# Altium schematic symbol library tor1kkLib.SchLib: 61 symbols
Pins are listed as number, name and electrical type; pins without a type are passive.

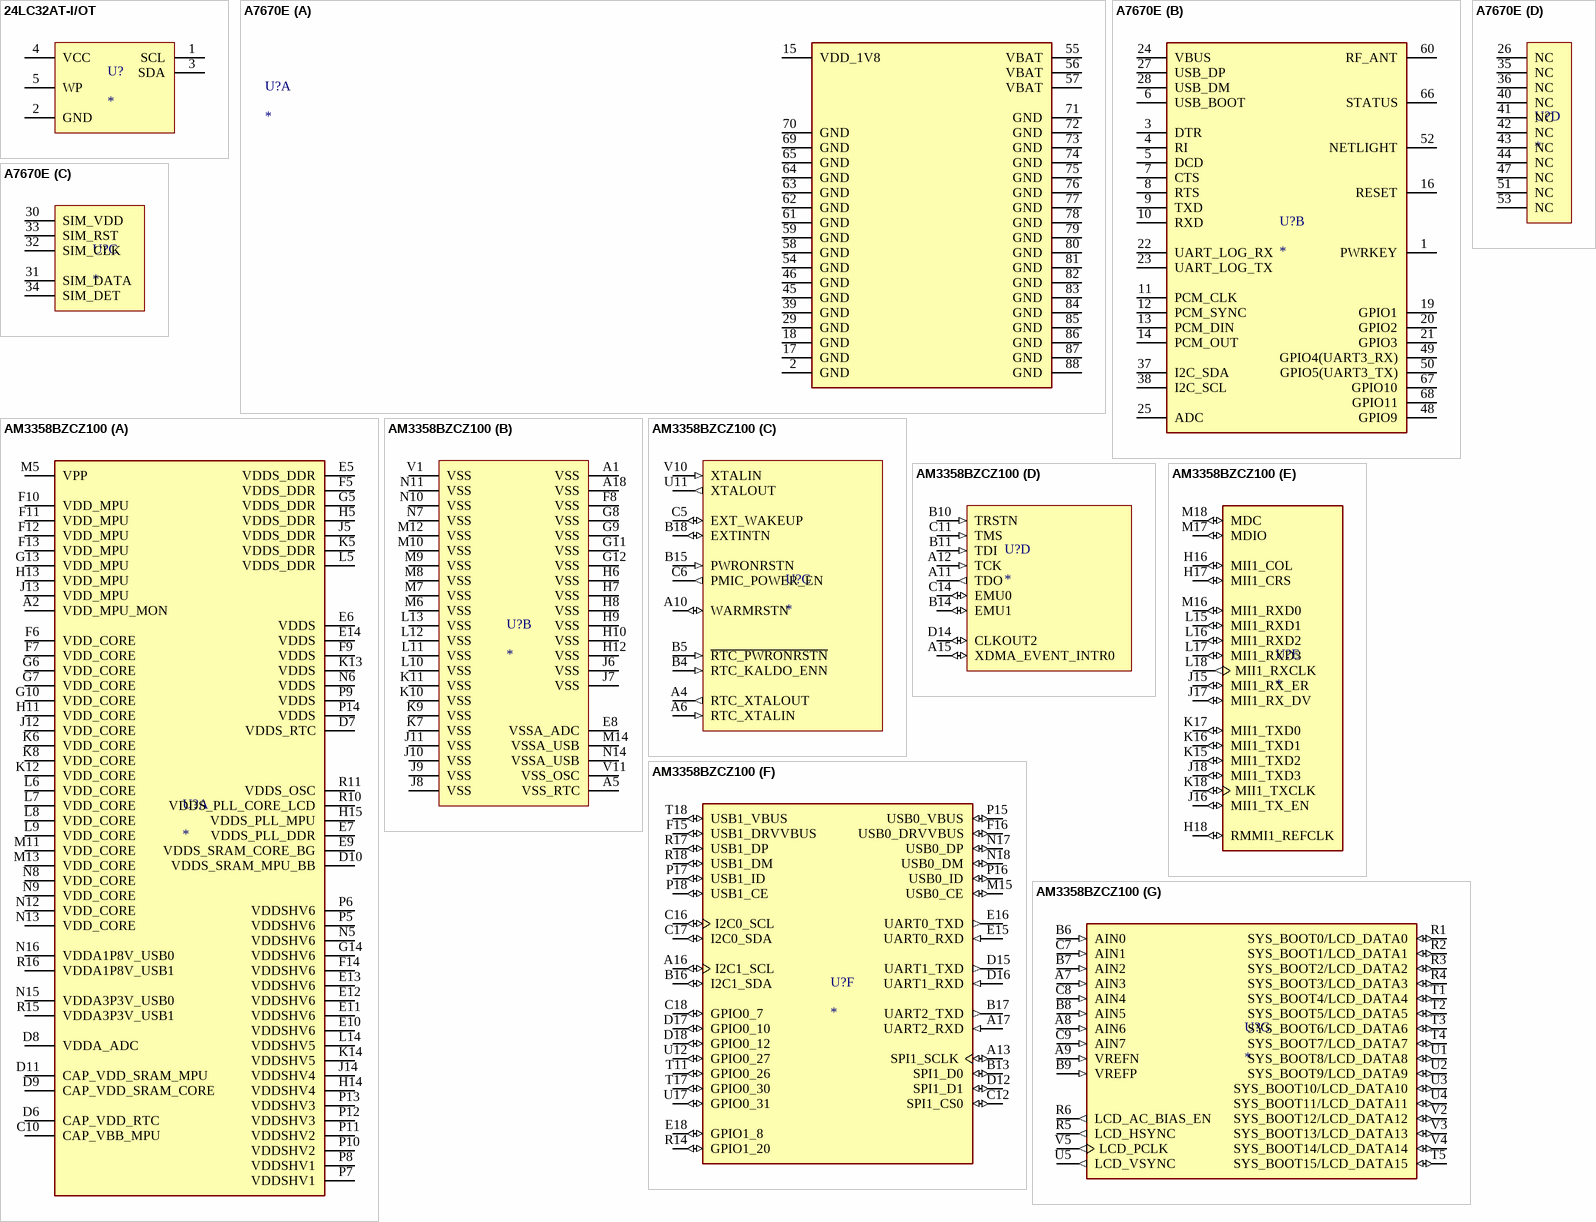
[diagram p0: symbols 24LC32AT-I/OT to AM3358BZCZ100]

## 24LC32AT-I/OT
designator U?
32Kbit 400kHz I2C SOT-23-5 EEPROM ROHS; Manufacturer: Microchip Tech; Manufacturer Part Number: 24LC32AT-I/OT; ComponentLink1Description: Datasheet Link; ComponentLink1URL: https://ww1.microchip.com/downloads/aemDocuments/documents/MPD/ProductDocuments/DataSheets/24AA32A-24LC32A-32-Kbit-I2C-Serial-EEPROM-DS20001713.pdf
footprint SOT-23-5 (SOT23, 5-Leads, Body 2,90x2,80mm, Pitch 0,95mm, IPC Medium Density)
pins: 1 SCL, 2 GND, 3 SDA, 4 VCC, 5 WP

## A7670E
designator U?
LTE Cat 1 module; Manufacturer: SIMCom Wireless Solutions; Manufacturer Part Number: A7670E-LASE; ComponentLink1Description: Datasheet Link; ComponentLink1URL: https://nostris.ee/pdf/A7670%20Series%20Hardware%20Design_V1.00.pdf
footprint A7670
part A pins: 2 GND, 15 VDD_1V8, 17 GND, 18 GND, 29 GND, 39 GND, 45 GND, 46 GND, 54 GND, 55 VBAT, 56 VBAT, 57 VBAT, 58 GND, 59 GND, 61 GND, 62 GND, 63 GND, 64 GND, 65 GND, 69 GND, 70 GND, 71 GND, 72 GND, 73 GND, 74 GND, 75 GND, 76 GND, 77 GND, 78 GND, 79 GND, 80 GND, 81 GND, 82 GND, 83 GND, 84 GND, 85 GND, 86 GND, 87 GND, 88 GND
part B pins: 1 PWRKEY, 3 DTR, 4 RI, 5 DCD, 6 USB_BOOT, 7 CTS, 8 RTS, 9 TXD, 10 RXD, 11 PCM_CLK, 12 PCM_SYNC, 13 PCM_DIN, 14 PCM_OUT, 16 RESET, 19 GPIO1, 20 GPIO2, 21 GPIO3, 22 UART_LOG_RX, 23 UART_LOG_TX, 24 VBUS, 25 ADC, 27 USB_DP, 28 USB_DM, 37 I2C_SDA, 38 I2C_SCL, 48 GPIO9, 49 GPIO4(UART3_RX), 50 GPIO5(UART3_TX), 52 NETLIGHT, 60 RF_ANT, 66 STATUS, 67 GPIO10, 68 GPIO11
part C pins: 30 SIM_VDD, 31 SIM_DATA, 32 SIM_CLK, 33 SIM_RST, 34 SIM_DET
part D pins: 26 NC, 35 NC, 36 NC, 40 NC, 41 NC, 42 NC, 43 NC, 44 NC, 47 NC, 51 NC, 53 NC

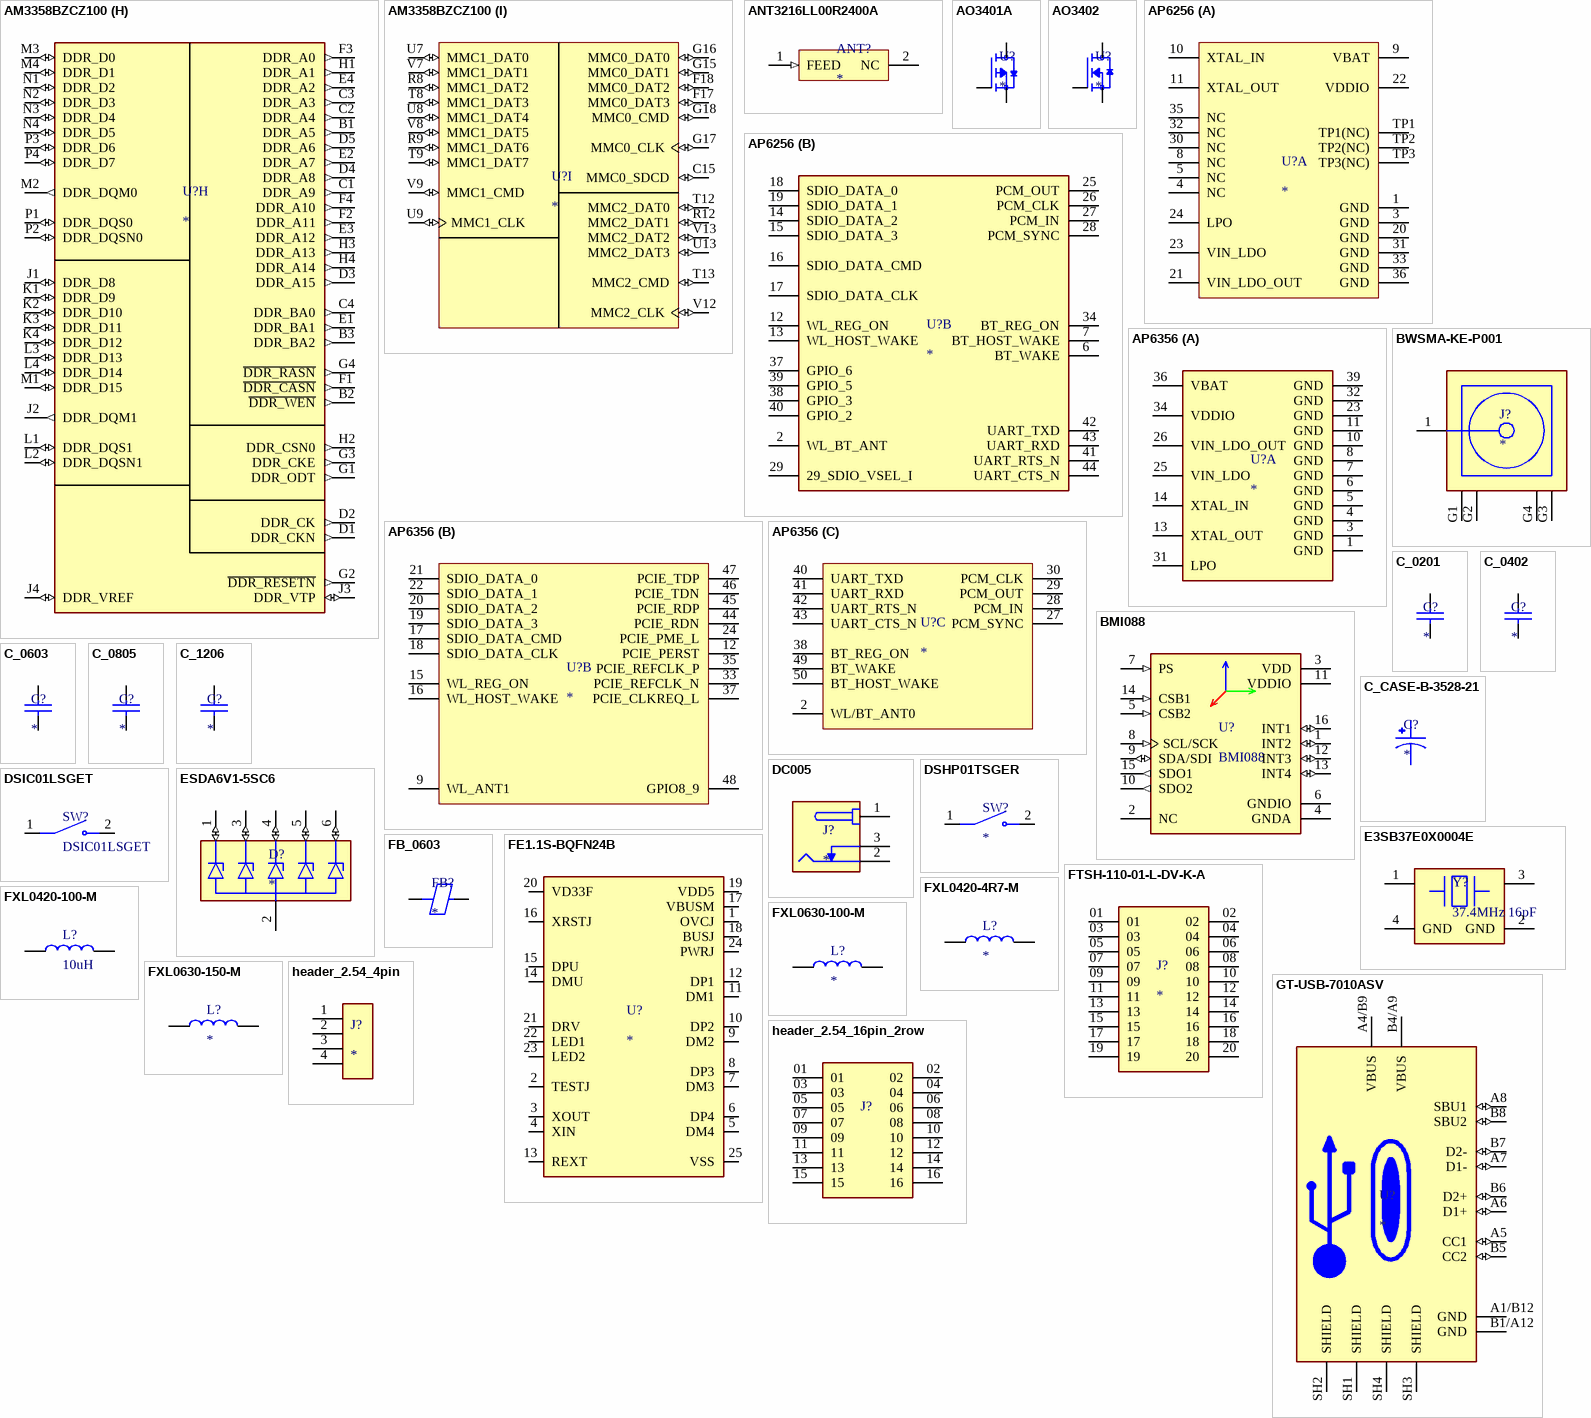
[diagram p1: symbols AM3358BZCZ100 to header_2.54_16pin_2row]

## AM3358BZCZ100
designator U?
ARM-ASeries 1GHz NFBGA-324 Microcontrollers (MCU/MPU/SOC) ROHS; Manufacturer: Texas Instruments; Manufacturer Part Number: AM3358BZCZ100; Datasheet Link: https://www.ti.com/lit/ds/symlink/am3358.pdf
footprint BGA324C80P18X18_1500X1500X140
part A pins: A2 VDD_MPU_MON (power), C10 CAP_VBB_MPU (power), D6 CAP_VDD_RTC (power), D7 VDDS_RTC (power), D8 VDDA_ADC (power), D9 CAP_VDD_SRAM_CORE (power), D10 VDDS_SRAM_MPU_BB (power), D11 CAP_VDD_SRAM_MPU (power), E5 VDDS_DDR (power), E6 VDDS (power), E7 VDDS_PLL_DDR (power), E9 VDDS_SRAM_CORE_BG (power), E10 VDDSHV6 (power), E11 VDDSHV6 (power), E12 VDDSHV6 (power), E13 VDDSHV6 (power), E14 VDDS (power), F5 VDDS_DDR (power), F6 VDD_CORE (power), F7 VDD_CORE (power), F9 VDDS (power), F10 VDD_MPU (power), F11 VDD_MPU (power), F12 VDD_MPU (power), F13 VDD_MPU (power), F14 VDDSHV6 (power), G5 VDDS_DDR (power), G6 VDD_CORE (power), G7 VDD_CORE (power), G10 VDD_CORE (power), G13 VDD_MPU (power), G14 VDDSHV6 (power), H5 VDDS_DDR (power), H11 VDD_CORE (power), H13 VDD_MPU (power), H14 VDDSHV4 (power), H15 VDDS_PLL_MPU (power), J5 VDDS_DDR (power), J12 VDD_CORE (power), J13 VDD_MPU (power), J14 VDDSHV4 (power), K5 VDDS_DDR (power), K6 VDD_CORE (power), K8 VDD_CORE (power), K12 VDD_CORE (power), K13 VDDS (power), K14 VDDSHV5 (power), L5 VDDS_DDR (power), L6 VDD_CORE (power), L7 VDD_CORE (power), L8 VDD_CORE (power), L9 VDD_CORE (power), L14 VDDSHV5 (power), M5 VPP (power), M11 VDD_CORE (power), M13 VDD_CORE (power), N5 VDDSHV6 (power), N6 VDDS (power), N8 VDD_CORE (power), N9 VDD_CORE (power), N12 VDD_CORE (power), N13 VDD_CORE (power), N15 VDDA3P3V_USB0 (power), N16 VDDA1P8V_USB0 (power), P5 VDDSHV6 (power), P6 VDDSHV6 (power), P7 VDDSHV1 (power), P8 VDDSHV1 (power), P9 VDDS (power), P10 VDDSHV2 (power), P11 VDDSHV2 (power), P12 VDDSHV3 (power), P13 VDDSHV3 (power), P14 VDDS (power), R10 VDDS_PLL_CORE_LCD (power), R11 VDDS_OSC (power), R15 VDDA3P3V_USB1 (power), R16 VDDA1P8V_USB1 (power)
part B pins: A1 VSS (power), A5 VSS_RTC (power), A18 VSS (power), E8 VSSA_ADC (power), F8 VSS (power), G8 VSS (power), G9 VSS (power), G11 VSS (power), G12 VSS (power), H6 VSS (power), H7 VSS (power), H8 VSS (power), H9 VSS (power), H10 VSS (power), H12 VSS (power), J6 VSS (power), J7 VSS (power), J8 VSS (power), J9 VSS (power), J10 VSS (power), J11 VSS (power), K7 VSS (power), K9 VSS (power), K10 VSS (power), K11 VSS (power), L10 VSS (power), L11 VSS (power), L12 VSS (power), L13 VSS (power), M6 VSS (power), M7 VSS (power), M8 VSS (power), M9 VSS (power), M10 VSS (power), M12 VSS (power), M14 VSSA_USB (power), N7 VSS (power), N10 VSS (power), N11 VSS (power), N14 VSSA_USB (power), V1 VSS (power), V11 VSS_OSC (power)
part C pins: A4 RTC_XTALOUT (out), A6 RTC_XTALIN (in), A10 WARMRSTN (io), B4 RTC_KALDO_ENN (in), B5 ~{RTC_PWRONRSTN} (in), B15 PWRONRSTN (in), B18 EXTINTN (io), C5 EXT_WAKEUP (io), C6 PMIC_POWER_EN (out), U11 XTALOUT (out), V10 XTALIN (in)
part D pins: A11 TDO (out), A12 TCK (in), A15 XDMA_EVENT_INTR0 (io), B10 TRSTN (in), B11 TDI (in), B14 EMU1 (io), C11 TMS (in), C14 EMU0 (io), D14 CLKOUT2 (io)
part E pins: H16 MII1_COL (io), H17 MII1_CRS (io), H18 RMMI1_REFCLK (io), J15 MII1_RX_ER (io), J16 MII1_TX_EN (io), J17 MII1_RX_DV (io), J18 MII1_TXD3 (io), K15 MII1_TXD2 (io), K16 MII1_TXD1 (io), K17 MII1_TXD0 (io), K18 MII1_TXCLK (io), L15 MII1_RXD1 (io), L16 MII1_RXD2 (io), L17 MII1_RXD3 (io), L18 MII1_RXCLK (out), M16 MII1_RXD0 (io), M17 MDIO (io), M18 MDC (io)
part F pins: A13 SPI1_SCLK (io), A16 I2C1_SCL (io), A17 UART2_RXD (in), B13 SPI1_D0 (io), B16 I2C1_SDA (io), B17 UART2_TXD (out), C12 SPI1_CS0 (io), C16 I2C0_SCL (io), C17 I2C0_SDA (io), C18 GPIO0_7 (io), D12 SPI1_D1 (io), D15 UART1_TXD (out), D16 UART1_RXD (in), D17 GPIO0_10 (io), D18 GPIO0_12 (io), E15 UART0_RXD (in), E16 UART0_TXD (out), E18 GPIO1_8 (io), F15 USB1_DRVVBUS (io), F16 USB0_DRVVBUS (io), M15 USB0_CE (io), N17 USB0_DP (io), N18 USB0_DM (io), P15 USB0_VBUS (io), P16 USB0_ID (io), P17 USB1_ID (io), P18 USB1_CE (io), R14 GPIO1_20 (io), R17 USB1_DP (io), R18 USB1_DM (io), T11 GPIO0_26 (io), T17 GPIO0_30 (io), T18 USB1_VBUS (io), U12 GPIO0_27 (io), U17 GPIO0_31 (io)
part G pins: A7 AIN3 (in), A8 AIN6 (in), A9 VREFN (in), B6 AIN0 (in), B7 AIN2 (in), B8 AIN5 (in), B9 VREFP (in), C7 AIN1 (in), C8 AIN4 (in), C9 AIN7 (in), R1 SYS_BOOT0/LCD_DATA0 (io), R2 SYS_BOOT1/LCD_DATA1 (io), R3 SYS_BOOT2/LCD_DATA2 (io), R4 SYS_BOOT3/LCD_DATA3 (io), R5 LCD_HSYNC (out), R6 LCD_AC_BIAS_EN (out), T1 SYS_BOOT4/LCD_DATA4 (io), T2 SYS_BOOT5/LCD_DATA5 (io), T3 SYS_BOOT6/LCD_DATA6 (io), T4 SYS_BOOT7/LCD_DATA7 (io), T5 SYS_BOOT15/LCD_DATA15 (io), U1 SYS_BOOT8/LCD_DATA8 (io), U2 SYS_BOOT9/LCD_DATA9 (io), U3 SYS_BOOT10/LCD_DATA10 (io), U4 SYS_BOOT11/LCD_DATA11 (io), U5 LCD_VSYNC (out), V2 SYS_BOOT12/LCD_DATA12 (io), V3 SYS_BOOT13/LCD_DATA13 (io), V4 SYS_BOOT14/LCD_DATA14 (io), V5 LCD_PCLK (out)
part H pins: B1 DDR_A5 (out), B2 ~{DDR_WEN} (out), B3 DDR_BA2 (out), C1 DDR_A9 (out), C2 DDR_A4 (out), C3 DDR_A3 (out), C4 DDR_BA0 (out), D1 DDR_CKN (out), D2 DDR_CK (out), D3 DDR_A15 (out), D4 DDR_A8 (out), D5 DDR_A6 (out), E1 DDR_BA1 (out), E2 DDR_A7 (out), E3 DDR_A12 (out), E4 DDR_A2 (out), F1 ~{DDR_CASN} (out), F2 DDR_A11 (out), F3 DDR_A0 (out), F4 DDR_A10 (out), G1 DDR_ODT (out), G2 ~{DDR_RESETN} (out), G3 DDR_CKE (out), G4 ~{DDR_RASN} (out), H1 DDR_A1 (out), H2 DDR_CSN0 (out), H3 DDR_A13 (out), H4 DDR_A14 (out), J1 DDR_D8 (io), J2 DDR_DQM1 (out), J3 DDR_VTP (io), J4 DDR_VREF (io), K1 DDR_D9 (io), K2 DDR_D10 (io), K3 DDR_D11 (io), K4 DDR_D12 (io), L1 DDR_DQS1 (io), L2 DDR_DQSN1 (io), L3 DDR_D13 (io), L4 DDR_D14 (io), M1 DDR_D15 (io), M2 DDR_DQM0 (out), M3 DDR_D0 (io), M4 DDR_D1 (io), N1 DDR_D2 (io), N2 DDR_D3 (io), N3 DDR_D4 (io), N4 DDR_D5 (io), P1 DDR_DQS0 (io), P2 DDR_DQSN0 (io), P3 DDR_D6 (io), P4 DDR_D7 (io)
part I pins: C15 MMC0_SDCD (io), F17 MMC0_DAT3 (io), F18 MMC0_DAT2 (io), G15 MMC0_DAT1 (io), G16 MMC0_DAT0 (io), G17 MMC0_CLK (io), G18 MMC0_CMD (io), R8 MMC1_DAT2 (io), R9 MMC1_DAT6 (io), R12 MMC2_DAT1 (io), T8 MMC1_DAT3 (io), T9 MMC1_DAT7 (io), T12 MMC2_DAT0 (io), T13 MMC2_CMD (io), U7 MMC1_DAT0 (io), U8 MMC1_DAT4 (io), U9 MMC1_CLK (io), U13 MMC2_DAT3 (io), V7 MMC1_DAT1 (io), V8 MMC1_DAT5 (io), V9 MMC1_CMD (io), V12 MMC2_CLK (io), V13 MMC2_DAT2 (io)

## ANT3216LL00R2400A
designator ANT?
5.05dBi Chip Antenna Linear 160MHz 2450MHz 1W 1206 Antennas ROHS; Manufacturer: YAGEO; Manufacturer Part Number: ANT3216LL00R2400A; ComponentLink1Description: Datasheet Link; ComponentLink1URL: https://www.lcsc.com/datasheet/lcsc_datasheet_2410121536_YAGEO-ANT3216LL00R2400A_C293767.pdf
footprint ANT_1206
pins: 1 FEED (in), 2 NC

## AO3401A
designator U?
P-Channel 30 V 4A (Ta) 1.4W (Ta) Surface Mount SOT-23-3; Manufacturer: Alpha & Omega Semicon; Manufacturer Part Number: AO3401A; ComponentLink1Description: Datasheet Link; ComponentLink1URL: https://www.lcsc.com/datasheet/lcsc_datasheet_2412061733_Alpha---Omega-Semicon-AO3401A_C15127.pdf
footprint SOT-23-3
footprint SOT-23-3
pins: 1 G, 2 S, 3 D

## AO3402
designator U?
N-Channel 30 V 4A (Ta) 1.4W (Ta) Surface Mount SOT-23-3; Manufacturer: Alpha & Omega Semicon; Manufacturer Part Number: AO3402; ComponentLink1Description: Datasheet Link; ComponentLink1URL: https://www.lcsc.com/datasheet/lcsc_datasheet_2410121835_Alpha---Omega-Semicon-AO3402_C14385.pdf
footprint SOT-23-3
footprint SOT-23-3
pins: 1 G, 2 S, 3 D

## AP6256
designator U?
Wi-Fi and Bluetooth 802.11a/b/g/n/ac; Manufacturer: AMPAK Tech; Manufacturer Part Number: AP6256; ComponentLink1Description: Datasheet Link; ComponentLink1URL: https://files.pine64.org/doc/datasheet/PinebookPro/AP6256%20datasheet_V1.7_12282018.pdf
footprint AP6256
part A pins: 1 GND, 3 GND, 4 NC, 5 NC, 8 NC, 9 VBAT, 10 XTAL_IN, 11 XTAL_OUT, 20 GND, 21 VIN_LDO_OUT, 22 VDDIO, 23 VIN_LDO, 24 LPO, 30 NC, 31 GND, 32 NC, 33 GND, 35 NC, 36 GND, TP1 TP1(NC), TP2 TP2(NC), TP3 TP3(NC)
part B pins: 2 WL_BT_ANT, 6 BT_WAKE, 7 BT_HOST_WAKE, 12 WL_REG_ON, 13 WL_HOST_WAKE, 14 SDIO_DATA_2, 15 SDIO_DATA_3, 16 SDIO_DATA_CMD, 17 SDIO_DATA_CLK, 18 SDIO_DATA_0, 19 SDIO_DATA_1, 25 PCM_OUT, 26 PCM_CLK, 27 PCM_IN, 28 PCM_SYNC, 29 29_SDIO_VSEL_I, 34 BT_REG_ON, 37 GPIO_6, 38 GPIO_3, 39 GPIO_5, 40 GPIO_2, 41 UART_RTS_N, 42 UART_TXD, 43 UART_RXD, 44 UART_CTS_N

## AP6356
designator U?
Wi-Fi and Bluetooth IEEE 802.11 a/b/g/n/ac 2x2 MIMO
footprint AP6356
part A pins: 1 GND, 3 GND, 4 GND, 5 GND, 6 GND, 7 GND, 8 GND, 10 GND, 11 GND, 13 XTAL_OUT, 14 XTAL_IN, 23 GND, 25 VIN_LDO, 26 VIN_LDO_OUT, 31 LPO, 32 GND, 34 VDDIO, 36 VBAT, 39 GND
part B pins: 9 WL_ANT1, 12 PCIE_PERST, 15 WL_REG_ON, 16 WL_HOST_WAKE, 17 SDIO_DATA_CMD, 18 SDIO_DATA_CLK, 19 SDIO_DATA_3, 20 SDIO_DATA_2, 21 SDIO_DATA_0, 22 SDIO_DATA_1, 24 PCIE_PME_L, 33 PCIE_REFCLK_N, 35 PCIE_REFCLK_P, 37 PCIE_CLKREQ_L, 44 PCIE_RDN, 45 PCIE_RDP, 46 PCIE_TDN, 47 PCIE_TDP, 48 GPIO8_9
part C pins: 2 WL/BT_ANT0, 27 PCM_SYNC, 28 PCM_IN, 29 PCM_OUT, 30 PCM_CLK, 38 BT_REG_ON, 40 UART_TXD, 41 UART_RXD, 42 UART_RTS_N, 43 UART_CTS_N, 49 BT_WAKE, 50 BT_HOST_WAKE

## BMI088
designator U?
High-performance 6-axis inertial sensor (accelerometer + gyroscope); Manufacturer: Bosch Sensortec; Manufacturer Part Number: BMI088; Datasheet: https://www.bosch-sensortec.com/media/boschsensortec/downloads/datasheets/bst-bmi088-ds001.pdf
footprint BMI088
pins: 1 INT2 (io), 2 NC, 3 VDD (power), 4 GNDA (power), 5 CSB2 (in), 6 GNDIO (power), 7 PS (in), 8 SCL/SCK (in), 9 SDA/SDI (io), 10 SDO2 (out), 11 VDDIO (power), 12 INT3 (io), 13 INT4 (io), 14 CSB1 (in), 15 SDO1 (out), 16 INT1 (io)

## BWSMA-KE-P001
designator J?
1 Inner Hole SMA Board-End Staggered pins 50Ω 5.2mm SMD Coaxial Connectors (RF) ROHS; Manufacturer: BAT WIRELESS; Manufacturer Part Number: BWSMA-KE-P001; Datasheet Link: https://www.lcsc.com/datasheet/lcsc_datasheet_2410121647_BAT-WIRELESS-BWSMA-KE-P001_C496550.pdf
footprint BATWIRELESS_BWSMA-KE-P001
pins: 1 SIG, G1 GND (power), G2 GND (power), G3 GND (power), G4 GND (power)

## C_0201
designator C?
Capacitor 0201 SMD
footprint C_0201
pins: 1, 2

## C_0402
designator C?
Capacitor 0402 SMD
footprint C_0402
pins: 1, 2

## C_0603
designator C?
Capacitor 0603 SMD
footprint C_0603
pins: 1, 2

## C_0805
designator C?
Capacitor 0805 SMD
footprint C_0805
pins: 1, 2

## C_1206
designator C?
Capacitor 1206 SMD
footprint C_1206
pins: 1, 2

## C_CASE-B-3528-21
designator C?
Tantalum capacitor CASE-B-3528-21
footprint C_CASE-B
pins: 1, 2

## DC005
designator J?
Bend-in DC Power Receptacle -20℃~+70℃ 2mm 6.3mm 5A 24V Plugin DC Power Connectors ROHS
footprint DC005
pins: 1, 2, 3

## DSHP01TSGER
designator SW?
1 Digit SPST 24V Black 25mA 3000 Times SMD,2.9x5.4mm DIP Switches ROHS; Manufacturer: kangshen; Manufacturer Part Number: DSHP01TSGER; ComponentLink1Description: Datasheet Link; ComponentLink1URL: https://www.lcsc.com/datasheet/lcsc_datasheet_2411220122_kangshen-DSHP01TSGER_C3293141.pdf
footprint DSHP01TSGER
pins: 1 COM, 2 NO

## DSIC01LSGET
designator SW?
1 Digit SPST Black Flat Toggle, Raised Style SMD,2.5x6mm DIP Switches ROHS
footprint DSIC01LSGET
pins: 1 COM, 2 NO

## E3SB37E0X0004E
designator Y?, comment 37.4MHz 16pF
37.4MHz 16pF ±10ppm ±10ppm SMD3225-4P Crystals ROHS; Manufacturer: Hosonic Elec; Manufacturer Part Number: E3SB37E0X0004E; ComponentLink1Description: Datasheet Link; ComponentLink1URL: https://www.lcsc.com/datasheet/lcsc_datasheet_2410121523_Hosonic-Elec-E3SB37E0X0004E_C2687892.pdf
footprint CRYSTAL_SMD3225-4P
pins: 1 CRYSTAL_1, 2 GND, 3 CRYSTAL_2, 4 GND

## ESDA6V1-5SC6
designator D?
11.4V Clamp 7A (8/20µs) Ipp Tvs Diode Surface Mount SOT-23-6; Manufacturer: STMicroelectronics; Manufacturer Part Number: ESDA6V1-5SC6; ComponentLink1Description: Datasheet Link; ComponentLink1URL: https://www.st.com/resource/en/datasheet/esda6v1-5sc6.pdf
footprint SOT-23-6
pins: 1 I/O1 (io), 2 GND (power), 3 I/O2 (io), 4 I/O3 (io), 5 I/O4 (io), 6 I/O5 (io)

## FB_0603
designator FB?
Ferrite Beads 0603 SMD
footprint FB_0603
pins: 1, 2

## FE1.1S-BQFN24B
designator U?
USB 2.0 4-PORT HuB CONTROLlER; Manufacturer: Terminus Tech; Manufacturer Part Number: FE1.1S-BQFN24B; Datasheet Link: https://taoic.oss-cn-hangzhou.aliyuncs.com/7545/product/johnma_1627012225000.pdf
footprint QFN50P400X400X80-25N-D
pins: 1 OVCJ, 2 TESTJ, 3 XOUT, 4 XIN, 5 DM4, 6 DP4, 7 DM3, 8 DP3, 9 DM2, 10 DP2, 11 DM1, 12 DP1, 13 REXT, 14 DMU, 15 DPU, 16 XRSTJ, 17 VBUSM, 18 BUSJ, 19 VDD5 (power), 20 VD33F (power), 21 DRV, 22 LED1, 23 LED2, 24 PWRJ, 25 VSS (power)

## FTSH-110-01-L-DV-K-A
designator J?
Connector Header Surface Mount 20 position 0.050" (1.27mm)
footprint FTSH-110-01-L-DV-K-A
pins: 01, 02, 03, 04, 05, 06, 07, 08, 09, 10, 11, 12, 13, 14, 15, 16, 17, 18, 19, 20

## FXL0420-4R7-M
designator L?
2.8A 4.7uH Winding Inductor ±20% 3A SMD,4.2x4.4mm Power Inductors ROHS; Manufacturer: cjiang (Changjiang Microelectronics Tech); Mfr. Part: FXL0420-100-M; Datasheet: https://www.lcsc.com/datasheet/lcsc_datasheet_2404260921_cjiang--Changjiang-Microelectronics-Tech-FXL0420-100-M_C177242.pdf
footprint Inductor - SMD,4.2x4.4mm (Precision Wire Wound Inductor, 2-Leads, Body 4,40x4,20mm, IPC Medium Density)
footprint FXL0420 (SMD,4.2x4.4mm Power Inductors ROHS)
pins: 1, 2

## FXL0420-100-M
designator L?, comment 10uH
1.6A 10uH Integrated molded inductor ±20% 2.2A SMD,4.2x4.4mm Power Inductors ROHS; Manufacturer: cjiang (Changjiang Microelectronics Tech); Manufacturer Part Number: FXL0420-100-M; Datasheet: https://www.lcsc.com/datasheet/lcsc_datasheet_2404260921_cjiang--Changjiang-Microelectronics-Tech-FXL0420-100-M_C177242.pdf
footprint Inductor - SMD,4.2x4.4mm (Precision Wire Wound Inductor, 2-Leads, Body 4,40x4,20mm, IPC Medium Density)
pins: 1, 2

## FXL0630-100-M
designator L?
4.5A 10uH Winding Inductor ±20% 5.5A SMD,6.6x7mm Power Inductors ROHS; Manufacturer: cjiang; Manufacturer Part Number: FXL0630-150-M; Datasheet Link: https://www.lcsc.com/datasheet/lcsc_datasheet_2404260921_cjiang--Changjiang-Microelectronics-Tech-FXL0630-150-M_C177243.pdf
footprint FXL0630
pins: 1, 2

## FXL0630-150-M
designator L?
3A 15uH Integrated molded inductor ±20% 4.5A SMD,6.6x7mm Power Inductors ROHS; Manufacturer: cjiang; Manufacturer Part Number: FXL0630-150-M; Datasheet Link: https://www.lcsc.com/datasheet/lcsc_datasheet_2404260921_cjiang--Changjiang-Microelectronics-Tech-FXL0630-150-M_C177243.pdf
footprint FXL0630
pins: 1, 2

## GT-USB-7010ASV
designator U?
USB 2.0 3A 1 Horizontal attachment 16P Female -40℃~+85℃ Type-C SMD USB Connectors ROHS; Manufacturer: G-Switch; Manufacturer Part Number: GT-USB-7010ASV; ComponentLink1Description: Datasheet Link; ComponentLink1URL: https://www.lcsc.com/datasheet/lcsc_datasheet_2411221125_G-Switch-GT-USB-7010ASV_C2988369.pdf
footprint GT-USB-7010ASV (USB 2.0 3A 1 Horizontal attachment 16P Female -40℃~+85℃ Type-C SMD USB Connectors ROHS)
pins: A1/B12 GND (power), A4/B9 VBUS (power), A5 CC1 (io), A6 D1+ (io), A7 D1- (io), A8 SBU1 (io), B1/A12 GND (power), B4/A9 VBUS (power), B5 CC2 (io), B6 D2+ (io), B7 D2- (io), B8 SBU2 (io), SH1 SHIELD, SH2 SHIELD, SH3 SHIELD, SH4 SHIELD

## header_2.54_4pin
designator J?
footprint header_2.54mm_4pin
pins: 1, 2, 3, 4

## header_2.54_16pin_2row
designator J?  (value not drawn)
footprint header_2.54_16pin_2row
pins: 01, 02, 03, 04, 05, 06, 07, 08, 09, 10, 11, 12, 13, 14, 15, 16

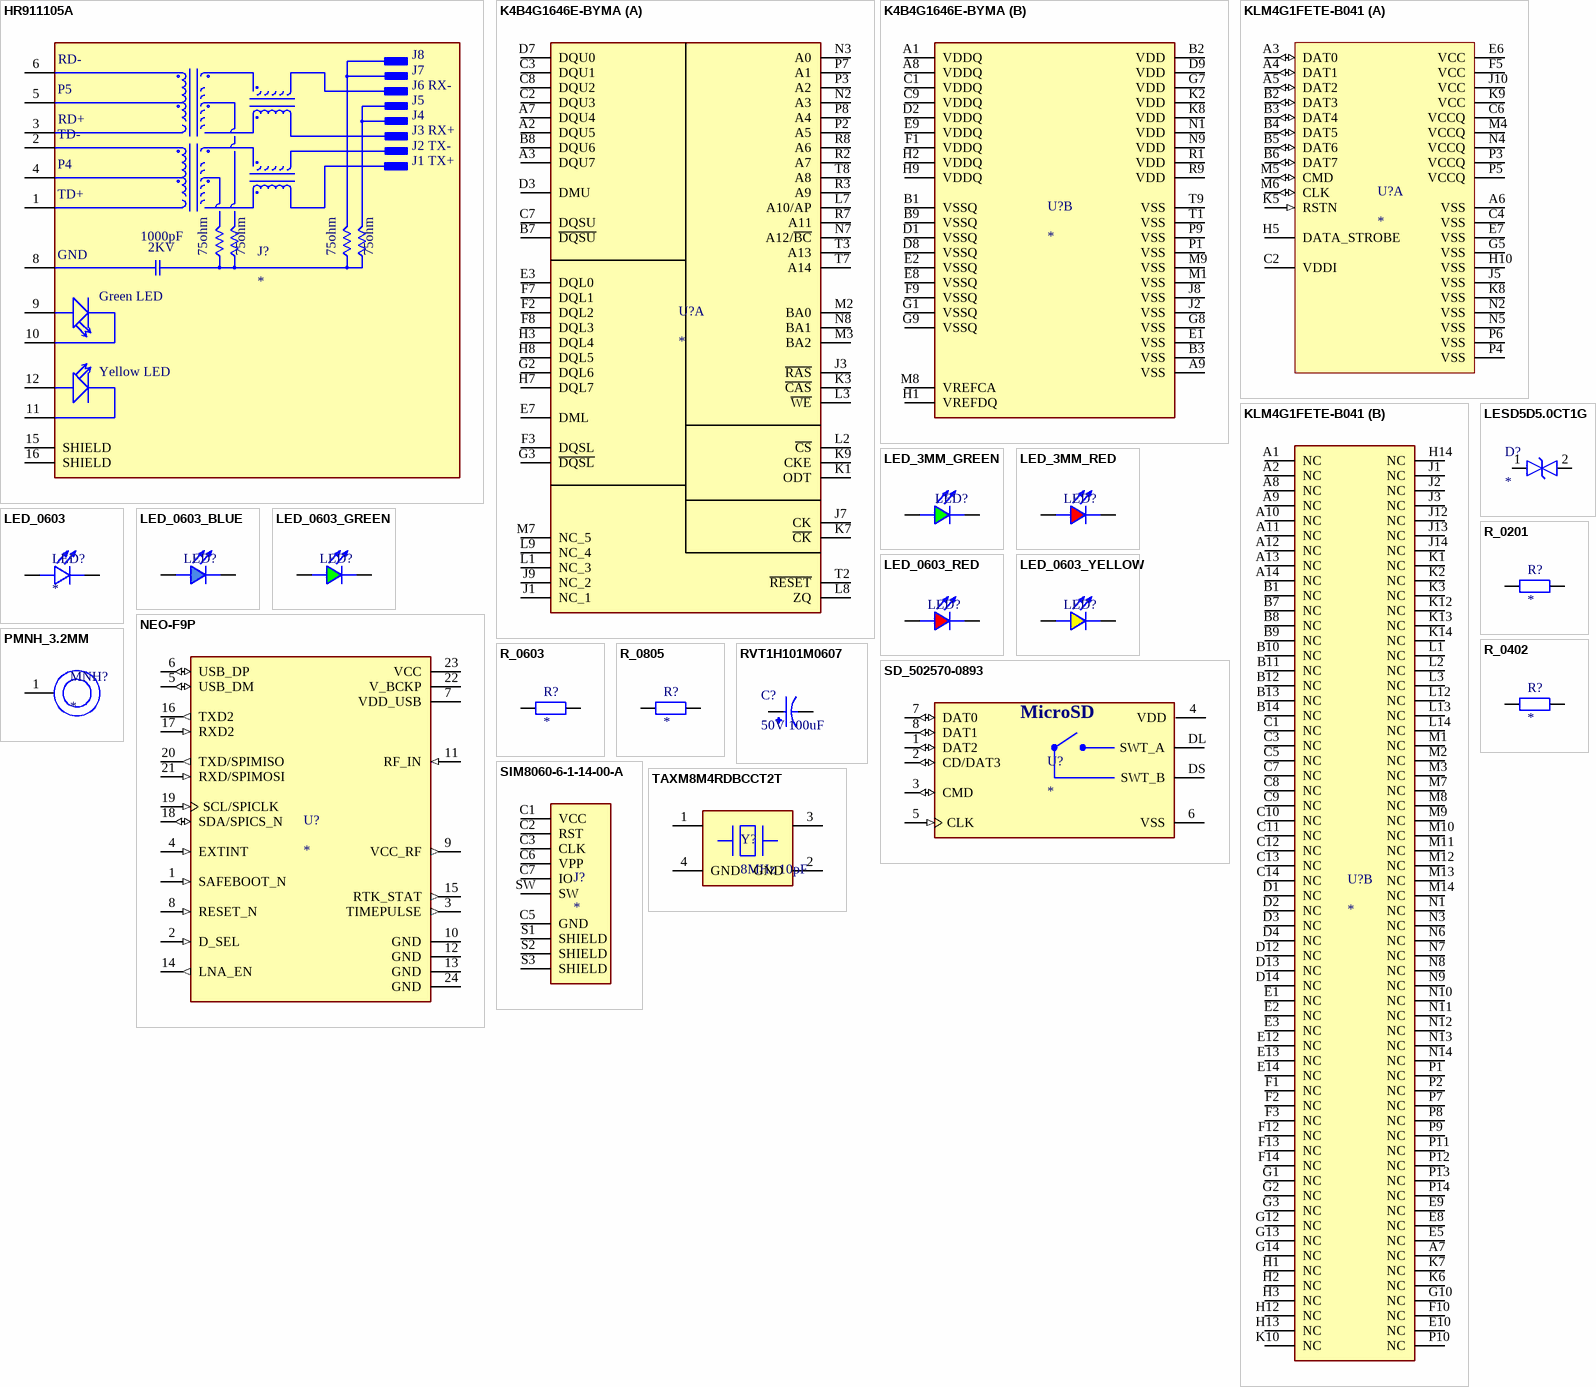
[diagram p2: symbols HR911105A to TAXM8M4RDBCCT2T]

## HR911105A
designator J?
RJ45Receptacle 1 WithLED Plugin Ethernet Connectors / Modular Connectors (RJ45 RJ11) ROHS; Manufaacturer: HANRUN(Zhongshan HanRun Elec); Manufacturer Part Number: HR911105A; ComponentLink1Description: Datasheet Link; ComponentLink1URL: https://www.lcsc.com/datasheet/lcsc_datasheet_2409302333_HANRUN-Zhongshan-HanRun-Elec-HR911105A_C12074.pdf
footprint HR911105A
pins: 1 TD+, 2 TD-, 3 RD+, 4 P4, 5 P5, 6 RD-, 8 GND (power), 9 GA, 10 GC, 11 YC, 12 YA, 15 SHIELD, 16 SHIELD
text: J8; J7; J6 RX-; J5; J4; J3 RX+; J2 TX-; J1 TX+; 1000pF; 2KV; 75ohm; Green LED; Yellow LED

## K4B4G1646E-BYMA
designator U?
4Gbit SDRAM DDR3L 933MHz FBGA-96(7.5x13.3) DDR SDRAM ROHS; Manufacturer Part Number: K4B4G1646E-BYMA; Mnufacturer: Samsung; Datasheet Link: https://download.semiconductor.samsung.com/resources/data-sheet/DS_K4B4G1646E_BY_M_Rev1_11-0.pdf
footprint BGA96C80P9X16_750X1330X120
part A pins: A2 DQU5, A3 DQU7, A7 DQU4, B7 ~{DQSU}, B8 DQU6, C2 DQU3, C3 DQU1, C7 DQSU, C8 DQU2, D3 DMU, D7 DQU0, E3 DQL0, E7 DML, F2 DQL2, F3 DQSL, F7 DQL1, F8 DQL3, G2 DQL6, G3 ~{DQSL}, H3 DQL4, H7 DQL7, H8 DQL5, J1 NC_1, J3 ~{RAS}, J7 CK, J9 NC_2, K1 ODT, K3 ~{CAS}, K7 ~{CK}, K9 CKE, L1 NC_3, L2 ~{CS}, L3 ~{WE}, L7 A10/AP, L8 ZQ, L9 NC_4, M2 BA0, M3 BA2, M7 NC_5, N2 A3, N3 A0, N7 A12/~{BC}, N8 BA1, P2 A5, P3 A2, P7 A1, P8 A4, R2 A7, R3 A9, R7 A11, R8 A6, T2 ~{RESET}, T3 A13, T7 A14, T8 A8
part B pins: A1 VDDQ, A8 VDDQ, A9 VSS, B1 VSSQ, B2 VDD, B3 VSS, B9 VSSQ, C1 VDDQ, C9 VDDQ, D1 VSSQ, D2 VDDQ, D8 VSSQ, D9 VDD, E1 VSS, E2 VSSQ, E8 VSSQ, E9 VDDQ, F1 VDDQ, F9 VSSQ, G1 VSSQ, G7 VDD, G8 VSS, G9 VSSQ, H1 VREFDQ, H2 VDDQ, H9 VDDQ, J2 VSS, J8 VSS, K2 VDD, K8 VDD, M1 VSS, M8 VREFCA, M9 VSS, N1 VDD, N9 VDD, P1 VSS, P9 VSS, R1 VDD, R9 VDD, T1 VSS, T9 VSS

## KLM4G1FETE-B041
designator U?
4GB 300/19 MB/s eMMC 5.1 FBGA-153(10x11) eMMC ROHS; Manufacturer: Samsung; Manufacturer Part Number: KLM4G1FETE-B041; Datasheet Link: https://www.lcsc.com/datasheet/lcsc_datasheet_2410121848_Samsung-KLM4G1FETE-B041_C500273.pdf
footprint BGA153C50P14X14_1100X1000X80
part A pins: A3 DAT0 (io), A4 DAT1 (io), A5 DAT2 (io), A6 VSS, B2 DAT3 (io), B3 DAT4 (io), B4 DAT5 (io), B5 DAT6 (io), B6 DAT7 (io), C2 VDDI, C4 VSS, C6 VCCQ, E6 VCC, E7 VSS, F5 VCC, G5 VSS, H5 DATA_STROBE, H10 VSS, J5 VSS, J10 VCC, K5 RSTN (in), K8 VSS, K9 VCC, M4 VCCQ, M5 CMD (io), M6 CLK (io), N2 VSS, N4 VCCQ, N5 VSS, P3 VCCQ, P4 VSS, P5 VCCQ, P6 VSS
part B pins: A1 NC, A2 NC, A7 NC, A8 NC, A9 NC, A10 NC, A11 NC, A12 NC, A13 NC, A14 NC, B1 NC, B7 NC, B8 NC, B9 NC, B10 NC, B11 NC, B12 NC, B13 NC, B14 NC, C1 NC, C3 NC, C5 NC, C7 NC, C8 NC, C9 NC, C10 NC, C11 NC, C12 NC, C13 NC, C14 NC, D1 NC, D2 NC, D3 NC, D4 NC, D12 NC, D13 NC, D14 NC, E1 NC, E2 NC, E3 NC, E5 NC, E8 NC, E9 NC, E10 NC, E12 NC, E13 NC, E14 NC, F1 NC, F2 NC, F3 NC, F10 NC, F12 NC, F13 NC, F14 NC, G1 NC, G2 NC, G3 NC, G10 NC, G12 NC, G13 NC, G14 NC, H1 NC, H2 NC, H3 NC, H12 NC, H13 NC, H14 NC, J1 NC, J2 NC, J3 NC, J12 NC, J13 NC, J14 NC, K1 NC, K2 NC, K3 NC, K6 NC, K7 NC, K10 NC, K12 NC, K13 NC, K14 NC, L1 NC, L2 NC, L3 NC, L12 NC, L13 NC, L14 NC, M1 NC, M2 NC, M3 NC, M7 NC, M8 NC, M9 NC, M10 NC, M11 NC, M12 NC, M13 NC, M14 NC, N1 NC, N3 NC, N6 NC, N7 NC, N8 NC, N9 NC, N10 NC, N11 NC, N12 NC, N13 NC, N14 NC, P1 NC, P2 NC, P7 NC, P8 NC, P9 NC, P10 NC, P11 NC, P12 NC, P13 NC, P14 NC

## LED_3MM_GREEN
designator LED?  (value not drawn)
Diode LED 3mm Green
footprint LED_3MM_GREEN
pins: 1 A, 2 C

## LED_3MM_RED
designator LED?  (value not drawn)
Diode LED 3mm RED
footprint LED_3MM_RED
pins: 1 A, 2 C

## LED_0603
designator LED?
footprint LED_0603
pins: 1 A, 2 C

## LED_0603_BLUE
designator LED?  (value not drawn)
footprint LED_0603
pins: 1 A, 2 C

## LED_0603_GREEN
designator LED?  (value not drawn)
footprint LED_0603
pins: 1 A, 2 C

## LED_0603_RED
designator LED?  (value not drawn)
footprint LED_0603
pins: 1 A, 2 C

## LED_0603_YELLOW
designator LED?
footprint LED_0603
pins: 1 A, 2 C

## LESD5D5.0CT1G
designator D?
TVS Diode (Bi-directional); Manufacturer: LRC; Manufacturer Part Number: LESD5D5.0CT1G; Height: 0.7mm
footprint LESD5D50CT1G
pins: 1, 2

## NEO-F9P
designator U?
RF Receiver BeiDou, Galileo, GLONASS, GNSS, GPS -167dBm 921.6kbps; Manufacturer: u-blox; Manufacturer Part Number: NEO-F9P-15B; Datasheet Link: https://content.u-blox.com/sites/default/files/documents/NEO-F9P-15B_DataSheet_UBX-22021920.pdf
footprint NEO-F9P
pins: 1 SAFEBOOT_N (in), 2 D_SEL (in), 3 TIMEPULSE (out), 4 EXTINT (in), 5 USB_DM (io), 6 USB_DP (io), 7 VDD_USB (power), 8 RESET_N (in), 9 VCC_RF (out), 10 GND (power), 11 RF_IN (in), 12 GND (power), 13 GND (power), 14 LNA_EN (out), 15 RTK_STAT (out), 16 TXD2 (out), 17 RXD2 (in), 18 SDA/SPICS_N (io), 19 SCL/SPICLK (in), 20 TXD/SPIMISO (out), 21 RXD/SPIMOSI (in), 22 V_BCKP (power), 23 VCC (power), 24 GND (power)

## PMNH_3.2MM
designator MNH?
footprint PMNH_3.2MM
pins: 1

## R_0201
designator R?
Resistor 0201 SMD
footprint R_0201
pins: 1, 2

## R_0402
designator R?
Resistor 0402 SMD
footprint R_0402 (Chip Resistor, 2-Leads, Body 1,00x0,50mm, IPC Medium Density)
pins: 1, 2

## R_0603
designator R?
Resistor 0603 SMD
footprint R_0603
pins: 1, 2

## R_0805
designator R?
Resistor 0805 SMD
footprint R_0603
pins: 1, 2

## RVT1H101M0607
designator C?, comment 50V 100uF
100uF 50V 229mA@120Hz ±20% SMD,D6.3xL7.7mm Aluminum Electrolytic Capacitors - SMD ROHS; Manufacturer Part Number: RVT1H101M0607; Manudacturer: ROQANG; Datasheet Link: https://www.lcsc.com/datasheet/lcsc_datasheet_2410121458_ROQANG-RVT1H101M0607_C3151829.pdf
footprint CAP_D6.3xL7.7mm
pins: 1, 2

## SD_502570-0893
designator U?
Conn IC Socket SD Memory Cd Micro 1.10mm 8Cir Norm Mnt SMT Push-Push LF | Molex Incorporated 502570-0893; Manufacturer: Molex; Manufacturer Part Number: 502570-0893; Datasheet Link: https://www.molex.com/en-us/products/part-detail/5025700893
footprint MOLEX_502570-0893
pins: 1 DAT2 (io), 2 CD/DAT3 (io), 3 CMD (io), 4 VDD (power), 5 CLK (in), 6 VSS (power), 7 DAT0 (io), 8 DAT1 (io), DL SWT_A, DS SWT_B
text: MicroSD

## SIM8060-6-1-14-00-A
designator J?
6 Position Card Connector NANO SIM Surface Mount, Right Angle Gold; Manufacturer: Global Connector Technology; Manufacturer Part Number: SIM8060-6-1-14-00-A; ComponentLink1Description: Datasheet Link; ComponentLink1URL: https://www.tme.eu/Document/cb0a1a43149419081a289087b1ef4c50/SIM8060-6-0-14-00A.pdf
footprint SIM8060-6-1-14-00-A
pins: C1 VCC, C2 RST, C3 CLK, C5 GND, C6 VPP, C7 IO, S1 SHIELD, S2 SHIELD, S3 SHIELD, SW

## TAXM8M4RDBCCT2T
designator Y?, comment 8MHz 10pF
8MHz Surface Mount Crystal 10pF ±10ppm ±15ppm SMD3225-4P Crystals ROHS; Manufacturer: Yajingxin; Manufacturer Part Number: TAXM8M4RDBCCT2T; Datasheet: https://www.lcsc.com/datasheet/lcsc_datasheet_2410121529_Yajingxin-TAXM8M4RDBCCT2T_C400090.pdf
footprint TAXM8M4RDBCCT2T_3225CRYSTAL
footprint CRYSTAL_SMD3225-4P
pins: 1 CRYSTAL_1, 2 GND, 3 CRYSTAL_2, 4 GND

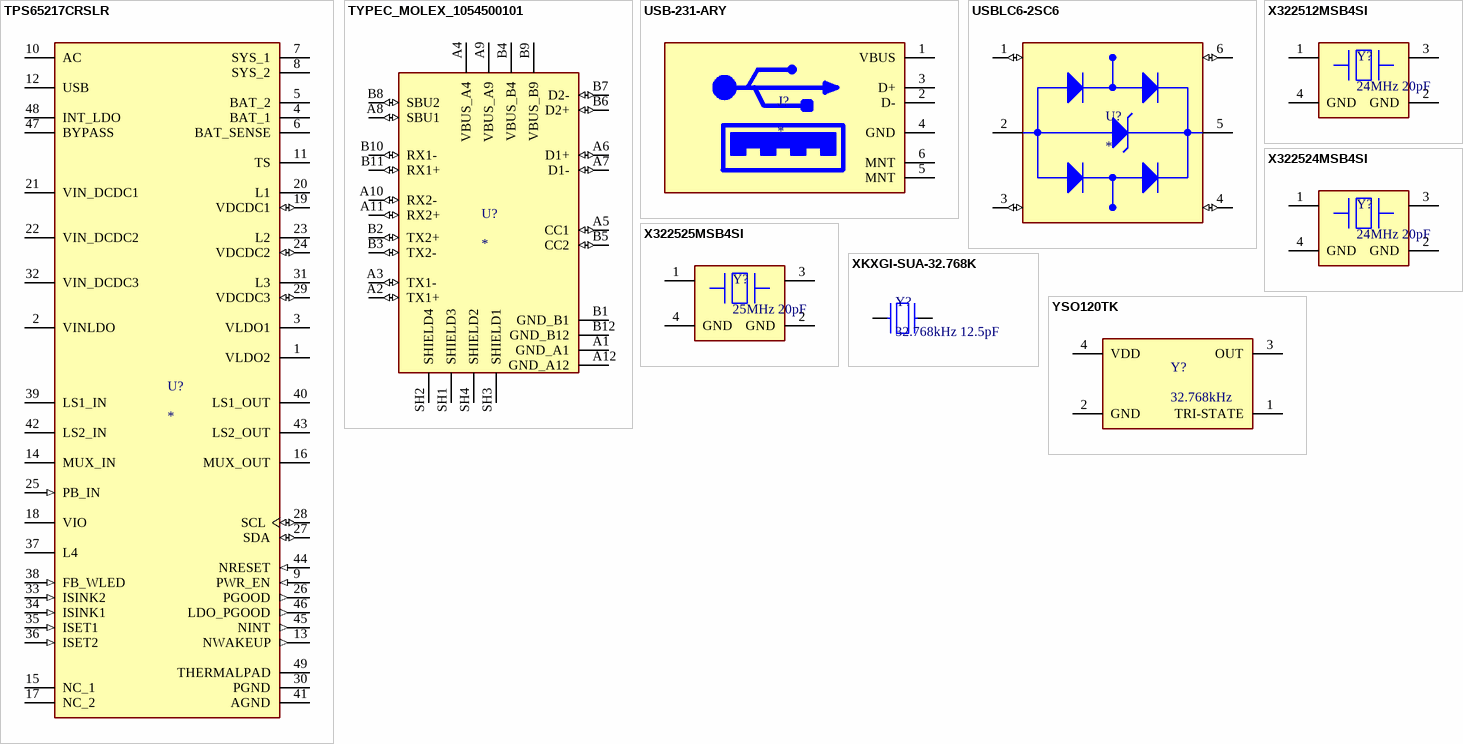
[diagram p3: symbols TPS65217CRSLR to YSO120TK]

## TPS65217CRSLR
designator U?
TPS65217 Single-Chip PMIC for Battery-Powered Systems; Manufacturer: Texas Instruments; Manufacturer Part Number: TPS65217CRSLR; Datasheet Link: https://www.ti.com/lit/ds/symlink/tps65217.pdf
footprint QFN40P600X600X100-49N-D
pins: 1 VLDO2, 2 VINLDO, 3 VLDO1, 4 BAT_1, 5 BAT_2, 6 BAT_SENSE, 7 SYS_1, 8 SYS_2, 9 PWR_EN (in), 10 AC, 11 TS, 12 USB, 13 NWAKEUP (out), 14 MUX_IN, 15 NC_1, 16 MUX_OUT, 17 NC_2, 18 VIO, 19 VDCDC1 (io), 20 L1, 21 VIN_DCDC1, 22 VIN_DCDC2, 23 L2, 24 VDCDC2 (io), 25 PB_IN (in), 26 PGOOD (out), 27 SDA (io), 28 SCL (io), 29 VDCDC3 (io), 30 PGND, 31 L3, 32 VIN_DCDC3, 33 ISINK2 (in), 34 ISINK1 (in), 35 ISET1 (in), 36 ISET2 (in), 37 L4, 38 FB_WLED (in), 39 LS1_IN, 40 LS1_OUT, 41 AGND, 42 LS2_IN, 43 LS2_OUT, 44 NRESET (in), 45 NINT (out), 46 LDO_PGOOD (out), 47 BYPASS, 48 INT_LDO, 49 THERMALPAD

## TYPEC_MOLEX_1054500101
designator U?
USB 3.2 1 24P Female -30℃~+85℃ Type-C SMD USB Connectors ROHS; Manufacturer: Molex; Manufacturer Part Number: 1054500101; Datasheet: https://www.lcsc.com/datasheet/lcsc_datasheet_2407021134_MOLEX-1054500101_C134092.pdf
footprint TYPEC_MOLEX_MOLEX 1054500101
pins: A1 GND_A1 (power), A2 TX1+ (io), A3 TX1- (io), A4 VBUS_A4 (power), A5 CC1 (io), A6 D1+ (io), A7 D1- (io), A8 SBU1 (io), A9 VBUS_A9 (power), A10 RX2- (io), A11 RX2+ (io), A12 GND_A12 (power), B1 GND_B1 (power), B2 TX2+ (io), B3 TX2- (io), B4 VBUS_B4 (power), B5 CC2 (io), B6 D2+ (io), B7 D2- (io), B8 SBU2 (io), B9 VBUS_B9 (power), B10 RX1- (io), B11 RX1+ (io), B12 GND_B12 (power), SH1 SHIELD3, SH2 SHIELD4, SH3 SHIELD1, SH4 SHIELD2

## USB-231-ARY
designator J?
Type-A 1.5A USB 2.0 1 Bend-in 4P Female -20℃~+70℃  Plugin USB Connectors ROHS; Manufacturer: XUNPU; Manufacturer Part Number: USB-231-ARY; Datasheet Link: https://www.lcsc.com/datasheet/lcsc_datasheet_2409302332_XUNPU-USB-231-ARY_C720525.pdf
footprint TYPE-A_W14xD14.45xH7
pins: 1 VBUS, 2 D-, 3 D+, 4 GND, 5 MNT, 6 MNT

## USBLC6-2SC6
designator U?
6A 12V 150W 6V Unidirectional 5V SOT-23-6 ESD and Surge Protection (TVS/ESD) ROHS; Manufacturer: STMicroelectronics; Manufacturer Part Number: USBLC6-2SC6; Datasheet Link: https://www.st.com/resource/en/datasheet/usblc6-2.pdf
footprint SOT95P280X145-6N
footprint SOT-23-6
pins: 1 I/O1_IN (io), 2 GND (power), 3 I/O2_IN (io), 4 I/O2_OUT (io), 5 VBUS (power), 6 I/O1_OUT (io)

## X322512MSB4SI
designator Y?, comment 24MHz 20pF
12MHz Surface Mount Crystal 20pF ±10ppm ±20ppm SMD3225-4P Crystals ROHS; Manufacturer: YXC Crystal Oscillators; Manufacturer Part Number: X322512MSB4SI; Datasheet Link: https://www.lcsc.com/datasheet/lcsc_datasheet_2411121006_YXC-Crystal-Oscillators-X322524MSB4SI_C15643.pdf
footprint CRYSTAL_SMD3225-4P
pins: 1 CRYSTAL_1, 2 GND, 3 CRYSTAL_2, 4 GND

## X322524MSB4SI
designator Y?, comment 24MHz 20pF
24MHz Surface Mount Crystal 20pF ±10ppm ±20ppm SMD3225-4P Crystals ROHS; Manufacturer: YXC Crystal Oscillators; Manufacturer Part Number: X322524MSB4SI; Datasheet Link: https://www.lcsc.com/datasheet/lcsc_datasheet_2411121006_YXC-Crystal-Oscillators-X322524MSB4SI_C15643.pdf
footprint CRYSTAL_SMD3225-4P
pins: 1 CRYSTAL_1, 2 GND, 3 CRYSTAL_2, 4 GND

## X322525MSB4SI
designator Y?, comment 25MHz 20pF
25MHz Surface Mount Crystal 20pF ±10ppm ±20ppm SMD3225-4P Crystals ROHS; Manufacturer: YXC Crystal Oscillators; Manufacturer Part Number: X322525MSB4SI; ComponentLink1Description: Datasheet Link; ComponentLink1URL: https://www.lcsc.com/datasheet/lcsc_datasheet_2411121006_YXC-Crystal-Oscillators-X322525MSB4SI_C13740.pdf
footprint CRYSTAL_SMD3225-4P
pins: 1 CRYSTAL_1, 2 GND, 3 CRYSTAL_2, 4 GND

## XKXGI-SUA-32.768K
designator Y?, comment 32.768kHz 12.5pF
32.768kHz Surface Mount Crystal 12.5pF ±20ppm ±30ppm SMD3215-2P Crystals ROHS; Manufacturer: YXC Crystal Oscillators; Manufacturer Part Number: XKXGI-SUA-32.768K; Datasheet Link: https://www.lcsc.com/datasheet/lcsc_datasheet_2210261730_YXC-Crystal-Oscillators-XKXGI-SUA-32-768K_C5213671.pdf
footprint CRYSTAL_SMD3215-2P
pins: 1, 2  

## YSO120TK
designator Y?, comment 32.768kHz
1.8V~3.3V ±10ppm ±20ppm CMOS 32.768kHz SMD3225-4P Crystal Oscillators ROHS; Manufacturer: YXC Crystal Oscillators; Manufacturer Part Number: OK2EL89CJI-111YLC-32.768K; ComponentLink1Description: Datasheet Link; ComponentLink1URL: https://www.lcsc.com/datasheet/lcsc_datasheet_2407310922_YXC-Crystal-Oscillators-OK2EL89CJI-111YLC-32-768K_C5280579.pdf
footprint CRYSTAL_SMD3225-4P
pins: 1 TRI-STATE, 2 GND, 3 OUT, 4 VDD